# Altium schematic symbol library Socket 3X2A.SchLib: 1 symbol
Pins are listed as number, name and electrical type; pins without a type are passive.

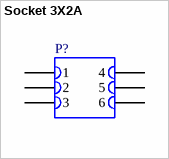
[diagram p0: symbol Socket 3X2A]

## Socket 3X2A
designator P?
Socket, 3-Pin, Dual row
pins: 1, 2, 3, 4, 5, 6